# EAGLE library part SRAM32KX8 (library F030NG)
SRAM memory 32k*8
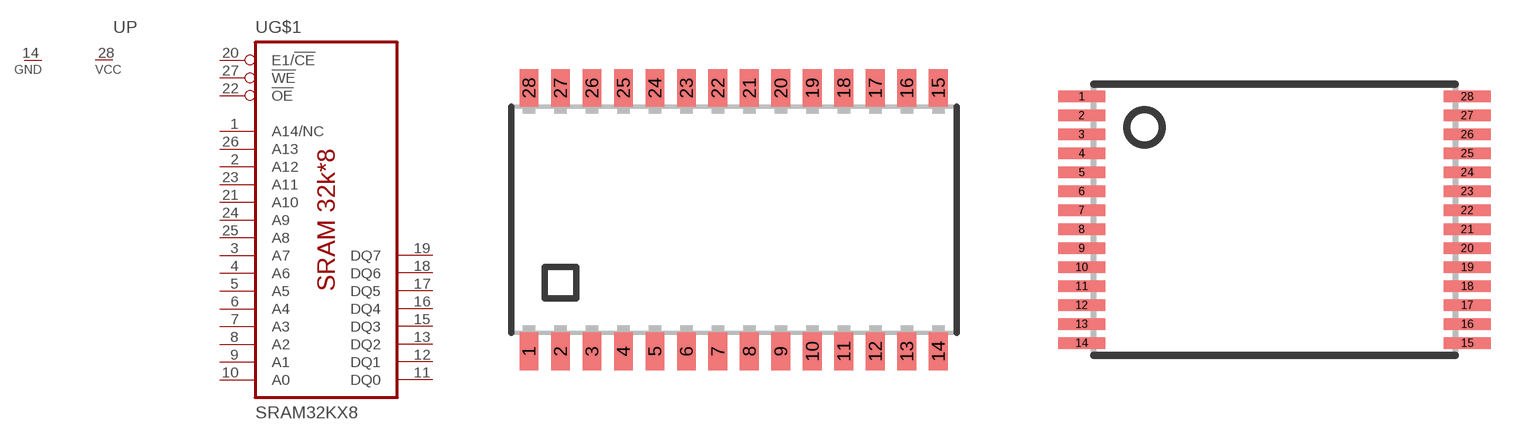
[diagram p37: symbol with the pads of SOIC28; footprints SOIC28, TSOP10X14]

Designator prefix U; gates G$1=RAM32KX8 P=1VCC_1GND

## SRAM32KX8-SO28  [SOIC28]
1  G$1:A14/NC  in
2  G$1:A12  in
3  G$1:A7  in
4  G$1:A6  in
5  G$1:A5  in
6  G$1:A4  in
7  G$1:A3  in
8  G$1:A2  in
9  G$1:A1  in
10  G$1:A0  in
11  G$1:DQ0
12  G$1:DQ1
13  G$1:DQ2
14  P:GND  pwr
15  G$1:DQ3
16  G$1:DQ4
17  G$1:DQ5
18  G$1:DQ6
19  G$1:DQ7
20  G$1:E1/!CE  in
21  G$1:A10  in
22  G$1:!OE  in
23  G$1:A11  in
24  G$1:A9  in
25  G$1:A8  in
26  G$1:A13  in
27  G$1:!WE  in
28  P:VCC  pwr

## SRAM32KX8-TSOP  [TSOP10X14]
1  G$1:!OE  in
2  G$1:A11  in
3  G$1:A9  in
4  G$1:A8  in
5  G$1:A13  in
6  G$1:!WE  in
7  P:VCC  pwr
8  G$1:A14/NC  in
9  G$1:A12  in
10  G$1:A7  in
11  G$1:A6  in
12  G$1:A5  in
13  G$1:A4  in
14  G$1:A3  in
15  G$1:A2  in
16  G$1:A1  in
17  G$1:A0  in
18  G$1:DQ0
19  G$1:DQ1
20  G$1:DQ2
21  P:GND  pwr
22  G$1:DQ3
23  G$1:DQ4
24  G$1:DQ5
25  G$1:DQ6
26  G$1:DQ7
27  G$1:E1/!CE  in
28  G$1:A10  in

## SRAM32KX8-SOJ28  [SOJ28-3]
Pads as for SOIC28

## Footprint SOIC28 (pad centres in mm)
9,1 mm wide body
smd 0.762 x 1.524: 1 -8.255,-5.315; 2 -6.985,-5.315; 3 -5.715,-5.315; 4 -4.445,-5.315; 5 -3.175,-5.315; 6 -1.905,-5.315; 7 -0.635,-5.315; 8 0.635,-5.315; 9 1.905,-5.315; 10 3.175,-5.315; 11 4.445,-5.315; 12 5.715,-5.315; 13 6.985,-5.315; 14 8.255,-5.315; 15 8.255,5.315; 16 6.985,5.315; 17 5.715,5.315; 18 4.445,5.315; 19 3.175,5.315; 20 1.905,5.315; 21 0.635,5.315; 22 -0.635,5.315; 23 -1.905,5.315; 24 -3.175,5.315; 25 -4.445,5.315; 26 -5.715,5.315; 27 -6.985,5.315; 28 -8.255,5.315

## Footprint TSOP10X14 (pad centres in mm)
TSOP28 thin small outline package
smd 1.6 x 0.4: 1 -6.6,4.225; 2 -6.6,3.575; 3 -6.6,2.925; 4 -6.6,2.275; 5 -6.6,1.625; 6 -6.6,0.975; 7 -6.6,0.325; 8 -6.6,-0.325; 9 -6.6,-0.975; 10 -6.6,-1.625; 11 -6.6,-2.275; 12 -6.6,-2.925; 13 -6.6,-3.575; 14 -6.6,-4.225; 15 6.6,-4.225; 16 6.6,-3.575; 17 6.6,-2.925; 18 6.6,-2.275; 19 6.6,-1.625; 20 6.6,-0.975; 21 6.6,-0.325; 22 6.6,0.325; 23 6.6,0.975; 24 6.6,1.625; 25 6.6,2.275; 26 6.6,2.925; 27 6.6,3.575; 28 6.6,4.225

## Footprint SOJ28-3 (pad centres in mm)
Small Outline J-Bend
smd 0.635 x 1.905: 1 -7.62,-3.505; 2 -6.35,-3.505; 3 -5.08,-3.505; 4 -3.81,-3.505; 5 -2.54,-3.505; 6 -1.27,-3.505; 7 0,-3.505; 8 1.27,-3.505; 9 2.54,-3.505; 10 3.81,-3.505; 11 5.08,-3.505; 12 6.35,-3.505; 13 7.62,-3.505; 14 8.89,-3.505; 15 8.89,3.505; 16 7.62,3.505; 17 6.35,3.505; 18 5.08,3.505; 19 3.81,3.505; 20 2.54,3.505; 21 1.27,3.505; 22 0,3.505; 23 -1.27,3.505; 24 -2.54,3.505; 25 -3.81,3.505; 26 -5.08,3.505; 27 -6.35,3.505; 28 -7.62,3.505